# EAGLE library part SN65HVD235 (library can-transceiver)
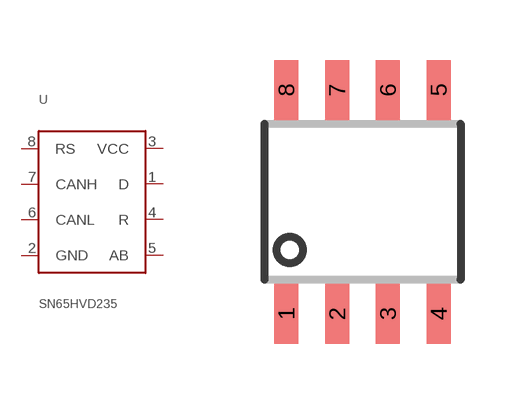
[diagram p0: symbol with the pads of DR-PDSO-G8; footprint DR-PDSO-G8]

Designator prefix U

## SN65HVD235  [DR-PDSO-G8]
1  D  in
2  GND  pwr
3  VCC  pwr
4  R  out
5  AB  in
6  CANL
7  CANH
8  RS  in

## Footprint DR-PDSO-G8 (pad centres in mm)
PLASTIC SMALL-OUTLINE PACKAGE SO 14 JEDEC MS-012, D Type Source: www.ti.com/.. slvs087l.pdf
smd 0.6 x 1.5: 1 -1.905,-2.8; 2 -0.635,-2.8; 3 0.635,-2.8; 4 1.905,-2.8; 5 1.905,2.8; 6 0.635,2.8; 7 -0.635,2.8; 8 -1.905,2.8